# Altium integrated library ON Semi General Purpose Transistors.IntLib: 1679 symbols (part 17 of 36)
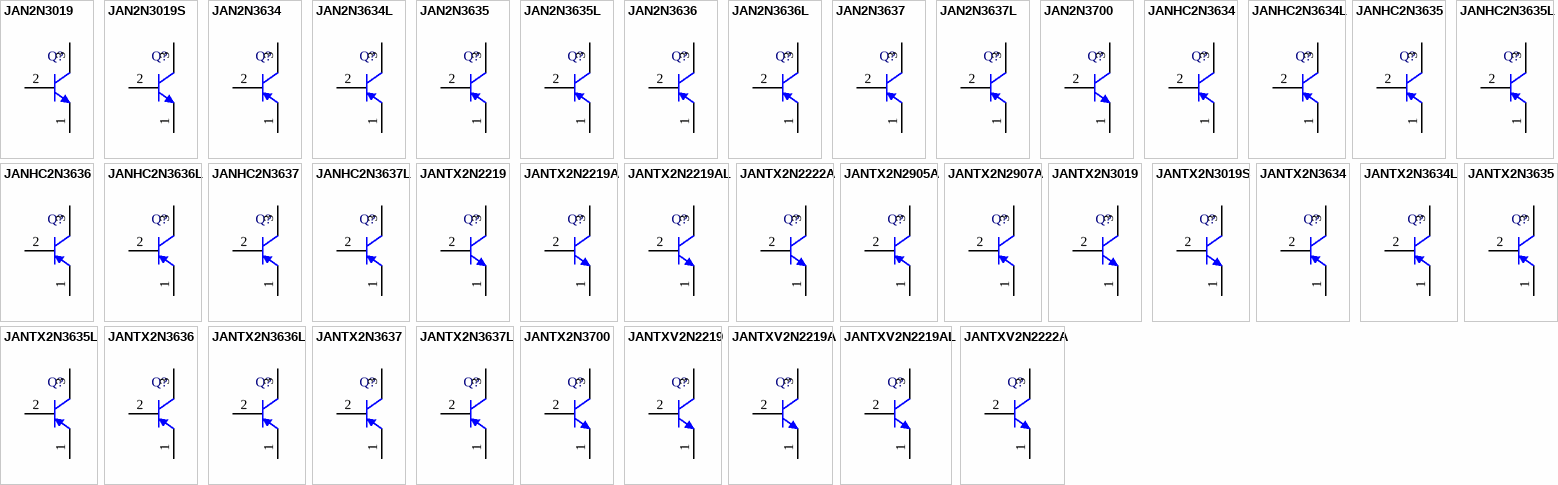
[diagram p61: symbols JAN2N3019 to JANTXV2N2222A]

## JANTX2N2907A
designator Q?
Small Signal Switching Transistor, PNP Silicon, 3-Pin TO-18, Bulk Box; Manufacturer: On Semiconductor; PartNumber: JANTX2N2907A; IC Continuous (A): -0.6; DatasheetVersion: Rev. 3; PackageVersion: Rev. A, 08/2012; PackageReference: TO-18-3-206AA; PackageDescription: 3-Pin Transistor Outline, Diameter 5.575 mm; Supplier 1: Newark; Supplier Part Number 1: 76T6062; Supplier 2: Mouser; Supplier Part Number 2: 863-JANTX2N2907A; Packing: Bulk Box; Polarity: PNP; RoHS: FALSE; Mounting Technology: Through Hole; ComponentLink1Description: Manufacturer URL; ComponentLink1URL: http://www.onsemi.com/; ComponentLink2Description: Datasheet; ComponentLink2URL: http://www.onsemi.com/pub_link/Collateral/2N2907A-D.PDF; ComponentLink3Description: Package Specification; ComponentLink3URL: http://www.onsemi.com/pub_link/Collateral/206AA.PDF
footprint ONSC-TO-18-3-206AA (TO, 3-Leads, Diameter 5.575 mm)
pins: 1 E, 2 B, 3 C

## JANTX2N3019
designator Q?
Low Power Transistor, NPN Silicon, 3-Pin TO-5, Bulk Box; Manufacturer: On Semiconductor; PartNumber: JANTX2N3019; IC Continuous (A): 1; DatasheetVersion: Rev. 2; PackageVersion: Rev. B, 07/2012; PackageReference: TO-5-3-205AA; PackageDescription: 3-Pin Transistor Outline, Diameter 9.145 mm; Supplier 1: Newark; Supplier Part Number 1: 76T6063; Supplier 2: Mouser; Supplier Part Number 2: 863-JANTX2N3019; Packing: Bulk Box; Polarity: NPN; RoHS: FALSE; Mounting Technology: Through Hole; ComponentLink1Description: Manufacturer URL; ComponentLink1URL: http://www.onsemi.com/; ComponentLink2Description: Datasheet; ComponentLink2URL: http://www.onsemi.com/pub_link/Collateral/2N3019-D.PDF; ComponentLink3Description: Package Specification; ComponentLink3URL: http://www.onsemi.com/pub_link/Collateral/205AA.PDF
footprint ONSC-TO-5-3-205AA (TO, 3-Leads, Diameter 9.145 mm)
pins: 1 E, 2 B, 3 C

## JANTX2N3019S
designator Q?
Low Power Transistor, NPN Silicon, 3-Pin TO-39, Bulk Box; Manufacturer: On Semiconductor; PartNumber: JANTX2N3019S; IC Continuous (A): 1; DatasheetVersion: Rev. 2; PackageVersion: Rev. A, 06/2012; PackageReference: TO-39-3-205AB; PackageDescription: 3-Pin Transistor Outline, Diameter 9.145 mm; Supplier 1: Newark; Supplier Part Number 1: 76T6064; Supplier 2: Mouser; Supplier Part Number 2: 863-JANTX2N3019S; Packing: Bulk Box; Polarity: NPN; RoHS: FALSE; Mounting Technology: Through Hole; ComponentLink1Description: Manufacturer URL; ComponentLink1URL: http://www.onsemi.com/; ComponentLink2Description: Datasheet; ComponentLink2URL: http://www.onsemi.com/pub_link/Collateral/2N3019-D.PDF; ComponentLink3Description: Package Specification; ComponentLink3URL: http://www.onsemi.com/pub_link/Collateral/205AB.PDF
footprint ONSC-TO-39-3-205AB (TO, 3-Leads, Diameter 9.145 mm)
pins: 1 E, 2 B, 3 C

## JANTX2N3634
designator Q?
Low Power Transistor, PNP Silicon, 3-Pin TO-39, Bulk Box; Manufacturer: On Semiconductor; PartNumber: JANTX2N3634; IC Continuous (A): 1; DatasheetVersion: Rev. 1; PackageVersion: Rev. A, 06/2012; PackageReference: TO-39-3-205AB; PackageDescription: 3-Pin Transistor Outline, Diameter 9.145 mm; Supplier 1: Newark; Supplier Part Number 1: 72W1878; Packing: Bulk Box; Polarity: PNP; RoHS: FALSE; Mounting Technology: Through Hole; ComponentLink1Description: Manufacturer URL; ComponentLink1URL: http://www.onsemi.com/; ComponentLink2Description: Datasheet; ComponentLink2URL: http://www.onsemi.com/pub_link/Collateral/2N3637-D.PDF; ComponentLink3Description: Package Specification; ComponentLink3URL: http://www.onsemi.com/pub_link/Collateral/205AB.PDF
footprint ONSC-TO-39-3-205AB (TO, 3-Leads, Diameter 9.145 mm)
pins: 1 E, 2 B, 3 C

## JANTX2N3634L
designator Q?
Low Power Transistor, PNP Silicon, 3-Pin TO-5, Bulk Box; Manufacturer: On Semiconductor; PartNumber: JANTX2N3634L; IC Continuous (A): 1; DatasheetVersion: Rev. 1; PackageVersion: Rev. B, 07/2012; PackageReference: TO-5-3-205AA; PackageDescription: 3-Pin Transistor Outline, Diameter 9.145 mm; Supplier 1: Newark; Supplier Part Number 1: 72W1879; Packing: Bulk Box; Polarity: PNP; RoHS: FALSE; Mounting Technology: Through Hole; ComponentLink1Description: Manufacturer URL; ComponentLink1URL: http://www.onsemi.com/; ComponentLink2Description: Datasheet; ComponentLink2URL: http://www.onsemi.com/pub_link/Collateral/2N3637-D.PDF; ComponentLink3Description: Package Specification; ComponentLink3URL: http://www.onsemi.com/pub_link/Collateral/205AA.PDF
footprint ONSC-TO-5-3-205AA (TO, 3-Leads, Diameter 9.145 mm)
pins: 1 E, 2 B, 3 C

## JANTX2N3635
designator Q?
Low Power Transistor, PNP Silicon, 3-Pin TO-39, Bulk Box; Manufacturer: On Semiconductor; PartNumber: JANTX2N3635; IC Continuous (A): 1; DatasheetVersion: Rev. 1; PackageVersion: Rev. A, 06/2012; PackageReference: TO-39-3-205AB; PackageDescription: 3-Pin Transistor Outline, Diameter 9.145 mm; Supplier 1: Newark; Supplier Part Number 1: 72W1880; Packing: Bulk Box; Polarity: PNP; RoHS: FALSE; Mounting Technology: Through Hole; ComponentLink1Description: Manufacturer URL; ComponentLink1URL: http://www.onsemi.com/; ComponentLink2Description: Datasheet; ComponentLink2URL: http://www.onsemi.com/pub_link/Collateral/2N3637-D.PDF; ComponentLink3Description: Package Specification; ComponentLink3URL: http://www.onsemi.com/pub_link/Collateral/205AB.PDF
footprint ONSC-TO-39-3-205AB (TO, 3-Leads, Diameter 9.145 mm)
pins: 1 E, 2 B, 3 C

## JANTX2N3635L
designator Q?
Low Power Transistor, PNP Silicon, 3-Pin TO-5, Bulk Box; Manufacturer: On Semiconductor; PartNumber: JANTX2N3635L; IC Continuous (A): 1; DatasheetVersion: Rev. 1; PackageVersion: Rev. B, 07/2012; PackageReference: TO-5-3-205AA; PackageDescription: 3-Pin Transistor Outline, Diameter 9.145 mm; Supplier 1: Newark; Supplier Part Number 1: 72W1881; Packing: Bulk Box; Polarity: PNP; RoHS: FALSE; Mounting Technology: Through Hole; ComponentLink1Description: Manufacturer URL; ComponentLink1URL: http://www.onsemi.com/; ComponentLink2Description: Datasheet; ComponentLink2URL: http://www.onsemi.com/pub_link/Collateral/2N3637-D.PDF; ComponentLink3Description: Package Specification; ComponentLink3URL: http://www.onsemi.com/pub_link/Collateral/205AA.PDF
footprint ONSC-TO-5-3-205AA (TO, 3-Leads, Diameter 9.145 mm)
pins: 1 E, 2 B, 3 C

## JANTX2N3636
designator Q?
Low Power Transistor, PNP Silicon, 3-Pin TO-39, Bulk Box; Manufacturer: On Semiconductor; PartNumber: JANTX2N3636; IC Continuous (A): 1; DatasheetVersion: Rev. 1; PackageVersion: Rev. A, 06/2012; PackageReference: TO-39-3-205AB; PackageDescription: 3-Pin Transistor Outline, Diameter 9.145 mm; Supplier 1: Newark; Supplier Part Number 1: 72W1882; Packing: Bulk Box; Polarity: PNP; RoHS: FALSE; Mounting Technology: Through Hole; ComponentLink1Description: Manufacturer URL; ComponentLink1URL: http://www.onsemi.com/; ComponentLink2Description: Datasheet; ComponentLink2URL: http://www.onsemi.com/pub_link/Collateral/2N3637-D.PDF; ComponentLink3Description: Package Specification; ComponentLink3URL: http://www.onsemi.com/pub_link/Collateral/205AB.PDF
footprint ONSC-TO-39-3-205AB (TO, 3-Leads, Diameter 9.145 mm)
pins: 1 E, 2 B, 3 C

## JANTX2N3636L
designator Q?
Low Power Transistor, PNP Silicon, 3-Pin TO-5, Bulk Box; Manufacturer: On Semiconductor; PartNumber: JANTX2N3636L; IC Continuous (A): 1; DatasheetVersion: Rev. 1; PackageVersion: Rev. B, 07/2012; PackageReference: TO-5-3-205AA; PackageDescription: 3-Pin Transistor Outline, Diameter 9.145 mm; Supplier 1: Newark; Supplier Part Number 1: 72W1883; Packing: Bulk Box; Polarity: PNP; RoHS: FALSE; Mounting Technology: Through Hole; ComponentLink1Description: Manufacturer URL; ComponentLink1URL: http://www.onsemi.com/; ComponentLink2Description: Datasheet; ComponentLink2URL: http://www.onsemi.com/pub_link/Collateral/2N3637-D.PDF; ComponentLink3Description: Package Specification; ComponentLink3URL: http://www.onsemi.com/pub_link/Collateral/205AA.PDF
footprint ONSC-TO-5-3-205AA (TO, 3-Leads, Diameter 9.145 mm)
pins: 1 E, 2 B, 3 C

## JANTX2N3637
designator Q?
Low Power Transistor, PNP Silicon, 3-Pin TO-39, Bulk Box; Manufacturer: On Semiconductor; PartNumber: JANTX2N3637; IC Continuous (A): 1; DatasheetVersion: Rev. 1; PackageVersion: Rev. A, 06/2012; PackageReference: TO-39-3-205AB; PackageDescription: 3-Pin Transistor Outline, Diameter 9.145 mm; Supplier 1: Newark; Supplier Part Number 1: 72W1884; Packing: Bulk Box; Polarity: PNP; RoHS: FALSE; Mounting Technology: Through Hole; ComponentLink1Description: Manufacturer URL; ComponentLink1URL: http://www.onsemi.com/; ComponentLink2Description: Datasheet; ComponentLink2URL: http://www.onsemi.com/pub_link/Collateral/2N3637-D.PDF; ComponentLink3Description: Package Specification; ComponentLink3URL: http://www.onsemi.com/pub_link/Collateral/205AB.PDF
footprint ONSC-TO-39-3-205AB (TO, 3-Leads, Diameter 9.145 mm)
pins: 1 E, 2 B, 3 C

## JANTX2N3637L
designator Q?
Low Power Transistor, PNP Silicon, 3-Pin TO-5, Bulk Box; Manufacturer: On Semiconductor; PartNumber: JANTX2N3637L; IC Continuous (A): 1; DatasheetVersion: Rev. 1; PackageVersion: Rev. B, 07/2012; PackageReference: TO-5-3-205AA; PackageDescription: 3-Pin Transistor Outline, Diameter 9.145 mm; Supplier 1: Newark; Supplier Part Number 1: 72W1885; Packing: Bulk Box; Polarity: PNP; RoHS: FALSE; Mounting Technology: Through Hole; ComponentLink1Description: Manufacturer URL; ComponentLink1URL: http://www.onsemi.com/; ComponentLink2Description: Datasheet; ComponentLink2URL: http://www.onsemi.com/pub_link/Collateral/2N3637-D.PDF; ComponentLink3Description: Package Specification; ComponentLink3URL: http://www.onsemi.com/pub_link/Collateral/205AA.PDF
footprint ONSC-TO-5-3-205AA (TO, 3-Leads, Diameter 9.145 mm)
pins: 1 E, 2 B, 3 C

## JANTX2N3700
designator Q?
Low Power Transistor, NPN Silicon, 3-Pin TO-18, Bulk Box; Manufacturer: On Semiconductor; PartNumber: JANTX2N3700; IC Continuous (A): 1; DatasheetVersion: Rev. 2; PackageVersion: Rev. A, 08/2012; PackageReference: TO-18-3-206AA; PackageDescription: 3-Pin Transistor Outline, Diameter 5.575 mm; Supplier 1: Newark; Supplier Part Number 1: 76T6065; Supplier 2: Mouser; Supplier Part Number 2: 863-JANTX2N3700; Packing: Bulk Box; Polarity: NPN; RoHS: FALSE; Mounting Technology: Through Hole; ComponentLink1Description: Manufacturer URL; ComponentLink1URL: http://www.onsemi.com/; ComponentLink2Description: Datasheet; ComponentLink2URL: http://www.onsemi.com/pub_link/Collateral/2N3019-D.PDF; ComponentLink3Description: Package Specification; ComponentLink3URL: http://www.onsemi.com/pub_link/Collateral/206AA.PDF
footprint ONSC-TO-18-3-206AA (TO, 3-Leads, Diameter 5.575 mm)
pins: 1 E, 2 B, 3 C

## JANTXV2N2219
designator Q?
Small Signal Switching Transistor, NPN Silicon, 3-Pin TO-39, Bulk Box; Manufacturer: On Semiconductor; PartNumber: JANTXV2N2219; IC Continuous (A): 0.8; DatasheetVersion: Rev. 1; PackageVersion: Rev. A, 06/2012; PackageReference: TO-39-3-205AB; PackageDescription: 3-Pin Transistor Outline, Diameter 9.145 mm; Supplier 1: Mouser; Supplier Part Number 1: 863-JANTXV2N2219; Packing: Bulk Box; Polarity: NPN; RoHS: FALSE; Mounting Technology: Through Hole; ComponentLink1Description: Manufacturer URL; ComponentLink1URL: http://www.onsemi.com/; ComponentLink2Description: Datasheet; ComponentLink2URL: http://www.onsemi.com/pub_link/Collateral/2N2219-D.PDF; ComponentLink3Description: Package Specification; ComponentLink3URL: http://www.onsemi.com/pub_link/Collateral/205AB.PDF
footprint ONSC-TO-39-3-205AB (TO, 3-Leads, Diameter 9.145 mm)
pins: 1 E, 2 B, 3 C

## JANTXV2N2219A
designator Q?
Small Signal Switching Transistor, NPN Silicon, 3-Pin TO-39, Bulk Box; Manufacturer: On Semiconductor; PartNumber: JANTXV2N2219A; IC Continuous (A): 0.8; DatasheetVersion: Rev. 1; PackageVersion: Rev. A, 06/2012; PackageReference: TO-39-3-205AB; PackageDescription: 3-Pin Transistor Outline, Diameter 9.145 mm; Supplier 1: Newark; Supplier Part Number 1: 45W8310; Supplier 2: Mouser; Supplier Part Number 2: 863-JANTXV2N2219A; Packing: Bulk Box; Polarity: NPN; RoHS: FALSE; Mounting Technology: Through Hole; ComponentLink1Description: Manufacturer URL; ComponentLink1URL: http://www.onsemi.com/; ComponentLink2Description: Datasheet; ComponentLink2URL: http://www.onsemi.com/pub_link/Collateral/2N2219-D.PDF; ComponentLink3Description: Package Specification; ComponentLink3URL: http://www.onsemi.com/pub_link/Collateral/205AB.PDF
footprint ONSC-TO-39-3-205AB (TO, 3-Leads, Diameter 9.145 mm)
pins: 1 E, 2 B, 3 C

## JANTXV2N2219AL
designator Q?
Small Signal Switching Transistor, NPN Silicon, 3-Pin TO-5, Bulk Box; Manufacturer: On Semiconductor; PartNumber: JANTXV2N2219AL; IC Continuous (A): 0.8; DatasheetVersion: Rev. 1; PackageVersion: Rev. B, 07/2012; PackageReference: TO-5-3-205AA; PackageDescription: 3-Pin Transistor Outline, Diameter 9.145 mm; Supplier 1: Mouser; Supplier Part Number 1: 863-JANTXV2N2219AL; Packing: Bulk Box; Polarity: NPN; RoHS: FALSE; Mounting Technology: Through Hole; ComponentLink1Description: Manufacturer URL; ComponentLink1URL: http://www.onsemi.com/; ComponentLink2Description: Datasheet; ComponentLink2URL: http://www.onsemi.com/pub_link/Collateral/2N2219-D.PDF; ComponentLink3Description: Package Specification; ComponentLink3URL: http://www.onsemi.com/pub_link/Collateral/205AA.PDF
footprint ONSC-TO-5-3-205AA (TO, 3-Leads, Diameter 9.145 mm)
pins: 1 E, 2 B, 3 C

## JANTXV2N2222A
designator Q?
Small Signal Switching Transistor, NPN Silicon, 3-Pin TO-18, Bulk Box; Manufacturer: On Semiconductor; PartNumber: JANTXV2N2222A; IC Continuous (A): 0.8; DatasheetVersion: Rev. 2; PackageVersion: Rev. A, 08/2012; PackageReference: TO-18-3-206AA; PackageDescription: 3-Pin Transistor Outline, Diameter 5.575 mm; Supplier 1: Newark; Supplier Part Number 1: 45W8312; Supplier 2: Mouser; Supplier Part Number 2: 863-JANTXV2N2222A; Packing: Bulk Box; Polarity: NPN; RoHS: FALSE; Mounting Technology: Through Hole; ComponentLink1Description: Manufacturer URL; ComponentLink1URL: http://www.onsemi.com/; ComponentLink2Description: Datasheet; ComponentLink2URL: http://www.onsemi.com/pub_link/Collateral/2N2222A-D.PDF; ComponentLink3Description: Package Specification; ComponentLink3URL: http://www.onsemi.com/pub_link/Collateral/206AA.PDF
footprint ONSC-TO-18-3-206AA (TO, 3-Leads, Diameter 5.575 mm)
pins: 1 E, 2 B, 3 C

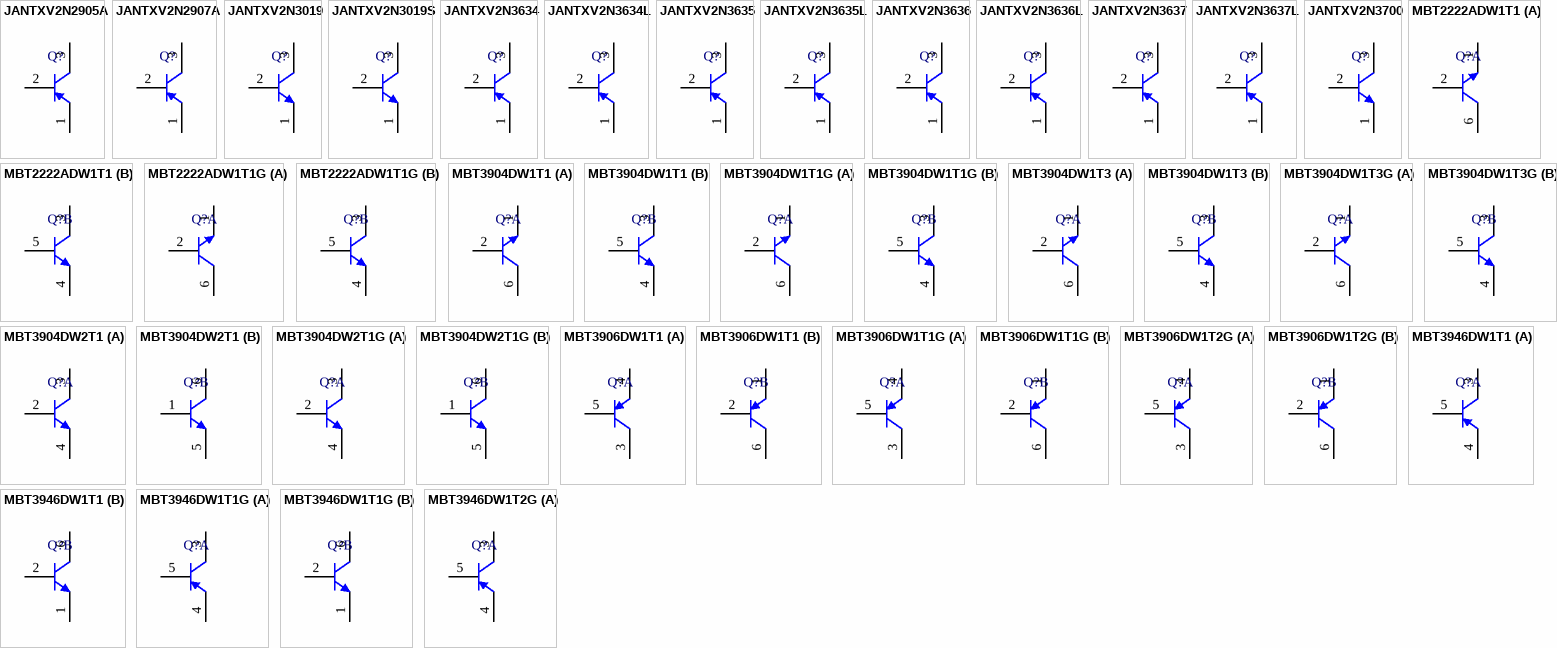
[diagram p21: symbols JANTXV2N2905A to MBT3946DW1T2G]

## JANTXV2N2905A
designator Q?
Small Signal Switching Transistor, PNP Silicon, 3-Pin TO-39, Bulk Box; Manufacturer: On Semiconductor; PartNumber: JANTXV2N2905A; IC Continuous (A): -0.6; DatasheetVersion: Rev. 2; PackageVersion: Rev. A, 06/2012; PackageReference: TO-39-3-205AB; PackageDescription: 3-Pin Transistor Outline, Diameter 9.145 mm; Supplier 1: Mouser; Supplier Part Number 1: 863-JANTXV2N2905A; Packing: Bulk Box; Polarity: PNP; RoHS: FALSE; Mounting Technology: Through Hole; ComponentLink1Description: Manufacturer URL; ComponentLink1URL: http://www.onsemi.com/; ComponentLink2Description: Datasheet; ComponentLink2URL: http://www.onsemi.com/pub_link/Collateral/2N2905A-D.PDF; ComponentLink3Description: Package Specification; ComponentLink3URL: http://www.onsemi.com/pub_link/Collateral/205AB.PDF
footprint ONSC-TO-39-3-205AB (TO, 3-Leads, Diameter 9.145 mm)
pins: 1 E, 2 B, 3 C

## JANTXV2N2907A
designator Q?
Small Signal Switching Transistor, PNP Silicon, 3-Pin TO-18, Bulk Box; Manufacturer: On Semiconductor; PartNumber: JANTXV2N2907A; IC Continuous (A): -0.6; DatasheetVersion: Rev. 3; PackageVersion: Rev. A, 08/2012; PackageReference: TO-18-3-206AA; PackageDescription: 3-Pin Transistor Outline, Diameter 5.575 mm; Supplier 1: Newark; Supplier Part Number 1: 76T6057; Supplier 2: Mouser; Supplier Part Number 2: 863-JANTXV2N2907A; Packing: Bulk Box; Polarity: PNP; RoHS: FALSE; Mounting Technology: Through Hole; ComponentLink1Description: Manufacturer URL; ComponentLink1URL: http://www.onsemi.com/; ComponentLink2Description: Datasheet; ComponentLink2URL: http://www.onsemi.com/pub_link/Collateral/2N2907A-D.PDF; ComponentLink3Description: Package Specification; ComponentLink3URL: http://www.onsemi.com/pub_link/Collateral/206AA.PDF
footprint ONSC-TO-18-3-206AA (TO, 3-Leads, Diameter 5.575 mm)
pins: 1 E, 2 B, 3 C

## JANTXV2N3019
designator Q?
Low Power Transistor, NPN Silicon, 3-Pin TO-5, Bulk Box; Manufacturer: On Semiconductor; PartNumber: JANTXV2N3019; IC Continuous (A): 1; DatasheetVersion: Rev. 2; PackageVersion: Rev. B, 07/2012; PackageReference: TO-5-3-205AA; PackageDescription: 3-Pin Transistor Outline, Diameter 9.145 mm; Supplier 1: Newark; Supplier Part Number 1: 76T6058; Packing: Bulk Box; Polarity: NPN; RoHS: FALSE; Mounting Technology: Through Hole; ComponentLink1Description: Manufacturer URL; ComponentLink1URL: http://www.onsemi.com/; ComponentLink2Description: Datasheet; ComponentLink2URL: http://www.onsemi.com/pub_link/Collateral/2N3019-D.PDF; ComponentLink3Description: Package Specification; ComponentLink3URL: http://www.onsemi.com/pub_link/Collateral/205AA.PDF
footprint ONSC-TO-5-3-205AA (TO, 3-Leads, Diameter 9.145 mm)
pins: 1 E, 2 B, 3 C

## JANTXV2N3019S
designator Q?
Low Power Transistor, NPN Silicon, 3-Pin TO-39, Bulk Box; Manufacturer: On Semiconductor; PartNumber: JANTXV2N3019S; Note: 0; IC Continuous (A): 1; DatasheetVersion: Rev. 2; PackageVersion: Rev. A, 06/2012; PackageReference: TO-39-3-205AB; PackageDescription: 3-Pin Transistor Outline, Diameter 9.145 mm; Packing: Bulk Box; Polarity: NPN; RoHS: FALSE; Mounting Technology: Through Hole; ComponentLink1Description: Manufacturer URL; ComponentLink1URL: http://www.onsemi.com/; ComponentLink2Description: Datasheet; ComponentLink2URL: http://www.onsemi.com/pub_link/Collateral/2N3019-D.PDF; ComponentLink3Description: Package Specification; ComponentLink3URL: http://www.onsemi.com/pub_link/Collateral/205AB.PDF
footprint ONSC-TO-39-3-205AB (TO, 3-Leads, Diameter 9.145 mm)
pins: 1 E, 2 B, 3 C

## JANTXV2N3634
designator Q?
Low Power Transistor, PNP Silicon, 3-Pin TO-39, Bulk Box; Manufacturer: On Semiconductor; PartNumber: JANTXV2N3634; IC Continuous (A): 1; DatasheetVersion: Rev. 1; PackageVersion: Rev. A, 06/2012; PackageReference: TO-39-3-205AB; PackageDescription: 3-Pin Transistor Outline, Diameter 9.145 mm; Supplier 1: Newark; Supplier Part Number 1: 72W1870; Packing: Bulk Box; Polarity: PNP; RoHS: FALSE; Mounting Technology: Through Hole; ComponentLink1Description: Manufacturer URL; ComponentLink1URL: http://www.onsemi.com/; ComponentLink2Description: Datasheet; ComponentLink2URL: http://www.onsemi.com/pub_link/Collateral/2N3637-D.PDF; ComponentLink3Description: Package Specification; ComponentLink3URL: http://www.onsemi.com/pub_link/Collateral/205AB.PDF
footprint ONSC-TO-39-3-205AB (TO, 3-Leads, Diameter 9.145 mm)
pins: 1 E, 2 B, 3 C

## JANTXV2N3634L
designator Q?
Low Power Transistor, PNP Silicon, 3-Pin TO-5, Bulk Box; Manufacturer: On Semiconductor; PartNumber: JANTXV2N3634L; IC Continuous (A): 1; DatasheetVersion: Rev. 1; PackageVersion: Rev. B, 07/2012; PackageReference: TO-5-3-205AA; PackageDescription: 3-Pin Transistor Outline, Diameter 9.145 mm; Supplier 1: Newark; Supplier Part Number 1: 72W1871; Packing: Bulk Box; Polarity: PNP; RoHS: FALSE; Mounting Technology: Through Hole; ComponentLink1Description: Manufacturer URL; ComponentLink1URL: http://www.onsemi.com/; ComponentLink2Description: Datasheet; ComponentLink2URL: http://www.onsemi.com/pub_link/Collateral/2N3637-D.PDF; ComponentLink3Description: Package Specification; ComponentLink3URL: http://www.onsemi.com/pub_link/Collateral/205AA.PDF
footprint ONSC-TO-5-3-205AA (TO, 3-Leads, Diameter 9.145 mm)
pins: 1 E, 2 B, 3 C

## JANTXV2N3635
designator Q?
Low Power Transistor, PNP Silicon, 3-Pin TO-39, Bulk Box; Manufacturer: On Semiconductor; PartNumber: JANTXV2N3635; IC Continuous (A): 1; DatasheetVersion: Rev. 1; PackageVersion: Rev. A, 06/2012; PackageReference: TO-39-3-205AB; PackageDescription: 3-Pin Transistor Outline, Diameter 9.145 mm; Supplier 1: Newark; Supplier Part Number 1: 72W1872; Packing: Bulk Box; Polarity: PNP; RoHS: FALSE; Mounting Technology: Through Hole; ComponentLink1Description: Manufacturer URL; ComponentLink1URL: http://www.onsemi.com/; ComponentLink2Description: Datasheet; ComponentLink2URL: http://www.onsemi.com/pub_link/Collateral/2N3637-D.PDF; ComponentLink3Description: Package Specification; ComponentLink3URL: http://www.onsemi.com/pub_link/Collateral/205AB.PDF
footprint ONSC-TO-39-3-205AB (TO, 3-Leads, Diameter 9.145 mm)
pins: 1 E, 2 B, 3 C

## JANTXV2N3635L
designator Q?
Low Power Transistor, PNP Silicon, 3-Pin TO-5, Bulk Box; Manufacturer: On Semiconductor; PartNumber: JANTXV2N3635L; IC Continuous (A): 1; DatasheetVersion: Rev. 1; PackageVersion: Rev. B, 07/2012; PackageReference: TO-5-3-205AA; PackageDescription: 3-Pin Transistor Outline, Diameter 9.145 mm; Supplier 1: Newark; Supplier Part Number 1: 72W1873; Packing: Bulk Box; Polarity: PNP; RoHS: FALSE; Mounting Technology: Through Hole; ComponentLink1Description: Manufacturer URL; ComponentLink1URL: http://www.onsemi.com/; ComponentLink2Description: Datasheet; ComponentLink2URL: http://www.onsemi.com/pub_link/Collateral/2N3637-D.PDF; ComponentLink3Description: Package Specification; ComponentLink3URL: http://www.onsemi.com/pub_link/Collateral/205AA.PDF
footprint ONSC-TO-5-3-205AA (TO, 3-Leads, Diameter 9.145 mm)
pins: 1 E, 2 B, 3 C

## JANTXV2N3636
designator Q?
Low Power Transistor, PNP Silicon, 3-Pin TO-39, Bulk Box; Manufacturer: On Semiconductor; PartNumber: JANTXV2N3636; IC Continuous (A): 1; DatasheetVersion: Rev. 1; PackageVersion: Rev. A, 06/2012; PackageReference: TO-39-3-205AB; PackageDescription: 3-Pin Transistor Outline, Diameter 9.145 mm; Supplier 1: Newark; Supplier Part Number 1: 72W1874; Packing: Bulk Box; Polarity: PNP; RoHS: FALSE; Mounting Technology: Through Hole; ComponentLink1Description: Manufacturer URL; ComponentLink1URL: http://www.onsemi.com/; ComponentLink2Description: Datasheet; ComponentLink2URL: http://www.onsemi.com/pub_link/Collateral/2N3637-D.PDF; ComponentLink3Description: Package Specification; ComponentLink3URL: http://www.onsemi.com/pub_link/Collateral/205AB.PDF
footprint ONSC-TO-39-3-205AB (TO, 3-Leads, Diameter 9.145 mm)
pins: 1 E, 2 B, 3 C

## JANTXV2N3636L
designator Q?
Low Power Transistor, PNP Silicon, 3-Pin TO-5, Bulk Box; Manufacturer: On Semiconductor; PartNumber: JANTXV2N3636L; IC Continuous (A): 1; DatasheetVersion: Rev. 1; PackageVersion: Rev. B, 07/2012; PackageReference: TO-5-3-205AA; PackageDescription: 3-Pin Transistor Outline, Diameter 9.145 mm; Supplier 1: Newark; Supplier Part Number 1: 72W1875; Packing: Bulk Box; Polarity: PNP; RoHS: FALSE; Mounting Technology: Through Hole; ComponentLink1Description: Manufacturer URL; ComponentLink1URL: http://www.onsemi.com/; ComponentLink2Description: Datasheet; ComponentLink2URL: http://www.onsemi.com/pub_link/Collateral/2N3637-D.PDF; ComponentLink3Description: Package Specification; ComponentLink3URL: http://www.onsemi.com/pub_link/Collateral/205AA.PDF
footprint ONSC-TO-5-3-205AA (TO, 3-Leads, Diameter 9.145 mm)
pins: 1 E, 2 B, 3 C

## JANTXV2N3637
designator Q?
Low Power Transistor, PNP Silicon, 3-Pin TO-39, Bulk Box; Manufacturer: On Semiconductor; PartNumber: JANTXV2N3637; IC Continuous (A): 1; DatasheetVersion: Rev. 1; PackageVersion: Rev. A, 06/2012; PackageReference: TO-39-3-205AB; PackageDescription: 3-Pin Transistor Outline, Diameter 9.145 mm; Supplier 1: Newark; Supplier Part Number 1: 72W1876; Packing: Bulk Box; Polarity: PNP; RoHS: FALSE; Mounting Technology: Through Hole; ComponentLink1Description: Manufacturer URL; ComponentLink1URL: http://www.onsemi.com/; ComponentLink2Description: Datasheet; ComponentLink2URL: http://www.onsemi.com/pub_link/Collateral/2N3637-D.PDF; ComponentLink3Description: Package Specification; ComponentLink3URL: http://www.onsemi.com/pub_link/Collateral/205AB.PDF
footprint ONSC-TO-39-3-205AB (TO, 3-Leads, Diameter 9.145 mm)
pins: 1 E, 2 B, 3 C

## JANTXV2N3637L
designator Q?
Low Power Transistor, PNP Silicon, 3-Pin TO-5, Bulk Box; Manufacturer: On Semiconductor; PartNumber: JANTXV2N3637L; IC Continuous (A): 1; DatasheetVersion: Rev. 1; PackageVersion: Rev. B, 07/2012; PackageReference: TO-5-3-205AA; PackageDescription: 3-Pin Transistor Outline, Diameter 9.145 mm; Supplier 1: Newark; Supplier Part Number 1: 72W1877; Packing: Bulk Box; Polarity: PNP; RoHS: FALSE; Mounting Technology: Through Hole; ComponentLink1Description: Manufacturer URL; ComponentLink1URL: http://www.onsemi.com/; ComponentLink2Description: Datasheet; ComponentLink2URL: http://www.onsemi.com/pub_link/Collateral/2N3637-D.PDF; ComponentLink3Description: Package Specification; ComponentLink3URL: http://www.onsemi.com/pub_link/Collateral/205AA.PDF
footprint ONSC-TO-5-3-205AA (TO, 3-Leads, Diameter 9.145 mm)
pins: 1 E, 2 B, 3 C

## JANTXV2N3700
designator Q?
Low Power Transistor, NPN Silicon, 3-Pin TO-18, Bulk Box; Manufacturer: On Semiconductor; PartNumber: JANTXV2N3700; IC Continuous (A): 1; DatasheetVersion: Rev. 2; PackageVersion: Rev. A, 08/2012; PackageReference: TO-18-3-206AA; PackageDescription: 3-Pin Transistor Outline, Diameter 5.575 mm; Supplier 1: Newark; Supplier Part Number 1: 76T6060; Supplier 2: Mouser; Supplier Part Number 2: 863-JANTXV2N3700; Packing: Bulk Box; Polarity: NPN; RoHS: FALSE; Mounting Technology: Through Hole; ComponentLink1Description: Manufacturer URL; ComponentLink1URL: http://www.onsemi.com/; ComponentLink2Description: Datasheet; ComponentLink2URL: http://www.onsemi.com/pub_link/Collateral/2N3019-D.PDF; ComponentLink3Description: Package Specification; ComponentLink3URL: http://www.onsemi.com/pub_link/Collateral/206AA.PDF
footprint ONSC-TO-18-3-206AA (TO, 3-Leads, Diameter 5.575 mm)
pins: 1 E, 2 B, 3 C

## MBT2222ADW1T1
designator Q?
General Purpose Transistor, NPN Silicon, 6-Pin SOT-363, Tape and Reel; Manufacturer: On Semiconductor; PartNumber: MBT2222ADW1T1; Note: 0; fT Min (MHz): 300; IC Continuous (A): 0.6; Polarity: Dual NPN; DatasheetVersion: Rev. 5; PackageVersion: Rev. Y, 12/2012; PackageReference: SOT-363-6-419B-02; PackageDescription: 6-Pin Small Outline Transistor, Body 2 x 1.25 mm, Pitch 0.65 mm; Packing: Tape and Reel; RoHS: FALSE; Mounting Technology: Surface Mount; ComponentLink1Description: Manufacturer URL; ComponentLink1URL: http://www.onsemi.com/; ComponentLink2Description: Datasheet; ComponentLink2URL: http://www.onsemi.com/pub_link/Collateral/MBT2222ADW1T1-D.PDF; ComponentLink3Description: Package Specification; ComponentLink3URL: http://www.onsemi.cn/pub_link/Collateral/419B-02.PDF
footprint ONSC-SOT-363-6-419B-02_V (SOT23, 6-Leads, Body 2x1.25mm, Pitch 0.65mm)
part A pins: 1 E, 2 B, 6 C
part B pins: 3 C, 4 E, 5 B

## MBT2222ADW1T1G
designator Q?
General Purpose Transistor, NPN Silicon, 6-Pin SOT-363, Pb-Free, Tape and Reel; Manufacturer: On Semiconductor; PartNumber: MBT2222ADW1T1G; fT Min (MHz): 300; IC Continuous (A): 0.6; Polarity: Dual NPN; DatasheetVersion: Rev. 5; PackageVersion: Rev. Y, 12/2012; PackageReference: SOT-363-6-419B-02; PackageDescription: 6-Pin Small Outline Transistor, Body 2 x 1.25 mm, Pitch 0.65 mm; Supplier 1: Digi-Key; Supplier Part Number 1: MBT2222ADW1T1GOSTR-ND; Supplier 2: Digi-Key; Supplier Part Number 2: MBT2222ADW1T1GOSCT-ND; Supplier 3: Digi-Key; Supplier Part Number 3: MBT2222ADW1T1GOSDKR-ND; Supplier 4: Farnell; Supplier Part Number 4: 1364536; Supplier 5: Newark; Supplier Part Number 5: 42K0022; Supplier 6: Mouser; Supplier Part Number 6: 863-MBT2222ADW1T1G; Packing: Tape and Reel; RoHS: TRUE; Mounting Technology: Surface Mount; ComponentLink1Description: Manufacturer URL; ComponentLink1URL: http://www.onsemi.com/; ComponentLink2Description: Datasheet; ComponentLink2URL: http://www.onsemi.com/pub_link/Collateral/MBT2222ADW1T1-D.PDF; ComponentLink3Description: Package Specification; ComponentLink3URL: http://www.onsemi.cn/pub_link/Collateral/419B-02.PDF
footprint ONSC-SOT-363-6-419B-02_V (SOT23, 6-Leads, Body 2x1.25mm, Pitch 0.65mm)
part A pins: 1 E, 2 B, 6 C
part B pins: 3 C, 4 E, 5 B

## MBT3904DW1T1
designator Q?
Dual General Purpose Transistors, 6-Pin SOT-363, Tape and Reel; Manufacturer: On Semiconductor; PartNumber: MBT3904DW1T1; fT Min (MHz): 300; IC Continuous (A): 0.2; Polarity: Dual NPN; DatasheetVersion: Rev. 9; PackageVersion: Rev. W, 01/2006; PackageReference: SOT-363-6-419B-02_W; PackageDescription: 6-Pin Small Outline Transistor, Body 2 x 1.25 mm, Pitch 0.65 mm; Supplier 1: Digi-Key; Supplier Part Number 1: MBT3904DW1T1OSCT-ND; Packing: Tape and Reel; RoHS: FALSE; Mounting Technology: Surface Mount; ComponentLink1Description: Manufacturer URL; ComponentLink1URL: http://www.onsemi.com/; ComponentLink2Description: Datasheet; ComponentLink2URL: http://www.onsemi.com/pub_link/Collateral/MBT3904DW1T1-D.PDF; ComponentLink3Description: Package Specification; ComponentLink3URL: http://www.onsemi.com/pub_link/Collateral/NTJD4001N-D.PDF
footprint ONSC-SOT-363-6-419B-02_W_V (SOT23, 6-Leads, Body 2x1.25mm, Pitch 0.65mm)
part A pins: 1 E, 2 B, 6 C
part B pins: 3 C, 4 E, 5 B

## MBT3904DW1T1G
designator Q?
Dual General Purpose Transistors, 6-Pin SOT-363, Pb-Free, Tape and Reel; Manufacturer: On Semiconductor; PartNumber: MBT3904DW1T1G; fT Min (MHz): 300; IC Continuous (A): 0.2; Polarity: Dual NPN; DatasheetVersion: Rev. 9; PackageVersion: Rev. W, 01/2006; PackageReference: SOT-363-6-419B-02_W; PackageDescription: 6-Pin Small Outline Transistor, Body 2 x 1.25 mm, Pitch 0.65 mm; Supplier 1: Digi-Key; Supplier Part Number 1: MBT3904DW1T1GOSTR-ND; Supplier 2: Digi-Key; Supplier Part Number 2: MBT3904DW1T1GOSCT-ND; Supplier 3: Digi-Key; Supplier Part Number 3: MBT3904DW1T1GOSDKR-ND; Supplier 4: Farnell; Supplier Part Number 4: 2317918; Supplier 5: Farnell; Supplier Part Number 5: 1653615; Supplier 6: Farnell; Supplier Part Number 6: 1653615RL; Supplier 7: Newark; Supplier Part Number 7: 88H4687; Supplier 8: Newark; Supplier Part Number 8: 67R1321; Supplier 9: Mouser; Supplier Part Number 9: 863-MBT3904DW1T1G; Packing: Tape and Reel; RoHS: TRUE; Mounting Technology: Surface Mount; ComponentLink1Description: Manufacturer URL; ComponentLink1URL: http://www.onsemi.com/; ComponentLink2Description: Datasheet; ComponentLink2URL: http://www.onsemi.com/pub_link/Collateral/MBT3904DW1T1-D.PDF; ComponentLink3Description: Package Specification; ComponentLink3URL: http://www.onsemi.com/pub_link/Collateral/NTJD4001N-D.PDF
footprint ONSC-SOT-363-6-419B-02_W_V (SOT23, 6-Leads, Body 2x1.25mm, Pitch 0.65mm)
part A pins: 1 E, 2 B, 6 C
part B pins: 3 C, 4 E, 5 B

## MBT3904DW1T3
designator Q?
Dual General Purpose Transistors, 6-Pin SOT-363, Tape and Reel; Manufacturer: On Semiconductor; PartNumber: MBT3904DW1T3; Note: 0; fT Min (MHz): 300; IC Continuous (A): 0.2; Polarity: Dual NPN; DatasheetVersion: Rev. 9; PackageVersion: Rev. W, 01/2006; PackageReference: SOT-363-6-419B-02_W; PackageDescription: 6-Pin Small Outline Transistor, Body 2 x 1.25 mm, Pitch 0.65 mm; Packing: Tape and Reel; RoHS: FALSE; Mounting Technology: Surface Mount; ComponentLink1Description: Manufacturer URL; ComponentLink1URL: http://www.onsemi.com/; ComponentLink2Description: Datasheet; ComponentLink2URL: http://www.onsemi.com/pub_link/Collateral/MBT3904DW1T1-D.PDF; ComponentLink3Description: Package Specification; ComponentLink3URL: http://www.onsemi.com/pub_link/Collateral/NTJD4001N-D.PDF
footprint ONSC-SOT-363-6-419B-02_W_V (SOT23, 6-Leads, Body 2x1.25mm, Pitch 0.65mm)
part A pins: 1 E, 2 B, 6 C
part B pins: 3 C, 4 E, 5 B

## MBT3904DW1T3G
designator Q?
Dual General Purpose Transistors, 6-Pin SOT-363, Pb-Free, Tape and Reel; Manufacturer: On Semiconductor; PartNumber: MBT3904DW1T3G; fT Min (MHz): 300; IC Continuous (A): 0.2; Polarity: Dual NPN; DatasheetVersion: Rev. 9; PackageVersion: Rev. W, 01/2006; PackageReference: SOT-363-6-419B-02_W; PackageDescription: 6-Pin Small Outline Transistor, Body 2 x 1.25 mm, Pitch 0.65 mm; Supplier 1: Digi-Key; Supplier Part Number 1: MBT3904DW1T3G-ND; Supplier 2: Newark; Supplier Part Number 2: 26K3691; Supplier 3: Mouser; Supplier Part Number 3: 863-MBT3904DW1T3G; Packing: Tape and Reel; RoHS: TRUE; Mounting Technology: Surface Mount; ComponentLink1Description: Manufacturer URL; ComponentLink1URL: http://www.onsemi.com/; ComponentLink2Description: Datasheet; ComponentLink2URL: http://www.onsemi.com/pub_link/Collateral/MBT3904DW1T1-D.PDF; ComponentLink3Description: Package Specification; ComponentLink3URL: http://www.onsemi.com/pub_link/Collateral/NTJD4001N-D.PDF
footprint ONSC-SOT-363-6-419B-02_W_V (SOT23, 6-Leads, Body 2x1.25mm, Pitch 0.65mm)
part A pins: 1 E, 2 B, 6 C
part B pins: 3 C, 4 E, 5 B

## MBT3904DW2T1
designator Q?
Dual General Purpose Transistors, 6-Pin SOT-363, Tape and Reel; Manufacturer: On Semiconductor; PartNumber: MBT3904DW2T1; fT Min (MHz): 300; IC Continuous (A): 0.2; Polarity: Dual NPN; DatasheetVersion: Rev. 9; PackageVersion: Rev. W, 01/2006; PackageReference: SOT-363-6-419B-02_W; PackageDescription: 6-Pin Small Outline Transistor, Body 2 x 1.25 mm, Pitch 0.65 mm; Supplier 1: Digi-Key; Supplier Part Number 1: MBT3904DW2T1OS-ND; Supplier 2: Mouser; Supplier Part Number 2: 863-MBT3904DW2T1; Packing: Tape and Reel; RoHS: FALSE; Mounting Technology: Surface Mount; ComponentLink1Description: Manufacturer URL; ComponentLink1URL: http://www.onsemi.com/; ComponentLink2Description: Datasheet; ComponentLink2URL: http://www.onsemi.cn/pub_link/Collateral/MBT3904DW1T1-D.PDF; ComponentLink3Description: Package Specification; ComponentLink3URL: http://www.onsemi.com/pub_link/Collateral/NTJD4001N-D.PDF
footprint ONSC-SOT-363-6-419B-02_W_V (SOT23, 6-Leads, Body 2x1.25mm, Pitch 0.65mm)
part A pins: 2 B, 3 C, 4 E
part B pins: 1 B, 5 E, 6 C

## MBT3904DW2T1G
designator Q?
Dual General Purpose Transistors, 6-Pin SOT-363, Pb-Free, Tape and Reel; Manufacturer: On Semiconductor; PartNumber: MBT3904DW2T1G; fT Min (MHz): 300; IC Continuous (A): 0.2; Polarity: Dual NPN; DatasheetVersion: Rev. 9; PackageVersion: Rev. W, 01/2006; PackageReference: SOT-363-6-419B-02_W; PackageDescription: 6-Pin Small Outline Transistor, Body 2 x 1.25 mm, Pitch 0.65 mm; Supplier 1: Digi-Key; Supplier Part Number 1: MBT3904DW2T1GOS-ND; Supplier 2: Mouser; Supplier Part Number 2: 863-MBT3904DW2T1G; Packing: Tape and Reel; RoHS: TRUE; Mounting Technology: Surface Mount; ComponentLink1Description: Manufacturer URL; ComponentLink1URL: http://www.onsemi.com/; ComponentLink2Description: Datasheet; ComponentLink2URL: http://www.onsemi.cn/pub_link/Collateral/MBT3904DW1T1-D.PDF; ComponentLink3Description: Package Specification; ComponentLink3URL: http://www.onsemi.com/pub_link/Collateral/NTJD4001N-D.PDF
footprint ONSC-SOT-363-6-419B-02_W_V (SOT23, 6-Leads, Body 2x1.25mm, Pitch 0.65mm)
part A pins: 2 B, 3 C, 4 E
part B pins: 1 B, 5 E, 6 C

## MBT3906DW1T1
designator Q?
Dual General Purpose Transistors, 6-Pin SOT-363, Tape and Reel; Manufacturer: On Semiconductor; PartNumber: MBT3906DW1T1; fT Min (MHz): 250; IC Continuous (A): -0.2; Polarity: Dual PNP; DatasheetVersion: Rev. 5; PackageVersion: Rev. Y, 12/2012; PackageReference: SOT-363-6-419B-02; PackageDescription: 6-Pin Small Outline Transistor, Body 2 x 1.25 mm, Pitch 0.65 mm; Supplier 1: Digi-Key; Supplier Part Number 1: MBT3906DW1T1OSCT-ND; Packing: Tape and Reel; RoHS: FALSE; Mounting Technology: Surface Mount; ComponentLink1Description: Manufacturer URL; ComponentLink1URL: http://www.onsemi.com/; ComponentLink2Description: Datasheet; ComponentLink2URL: http://www.onsemi.com/pub_link/Collateral/MBT3906DW1T1-D.PDF; ComponentLink3Description: Package Specification; ComponentLink3URL: http://www.onsemi.cn/pub_link/Collateral/419B-02.PDF
footprint ONSC-SOT-363-6-419B-02_V (SOT23, 6-Leads, Body 2x1.25mm, Pitch 0.65mm)
part A pins: 3 C, 4 E, 5 B
part B pins: 1 E, 2 B, 6 C

## MBT3906DW1T1G
designator Q?
Dual General Purpose Transistors, 6-Pin SOT-363, Pb-Free, Tape and Reel; Manufacturer: On Semiconductor; PartNumber: MBT3906DW1T1G; fT Min (MHz): 250; IC Continuous (A): -0.2; Polarity: Dual PNP; DatasheetVersion: Rev. 5; PackageVersion: Rev. Y, 12/2012; PackageReference: SOT-363-6-419B-02; PackageDescription: 6-Pin Small Outline Transistor, Body 2 x 1.25 mm, Pitch 0.65 mm; Supplier 1: Digi-Key; Supplier Part Number 1: MBT3906DW1T1GOSTR-ND; Supplier 2: Digi-Key; Supplier Part Number 2: MBT3906DW1T1GOSCT-ND; Supplier 3: Digi-Key; Supplier Part Number 3: MBT3906DW1T1GOSDKR-ND; Supplier 4: Newark; Supplier Part Number 4: 88H4689; Supplier 5: Mouser; Supplier Part Number 5: 863-MBT3906DW1T1G; Packing: Tape and Reel; RoHS: TRUE; Mounting Technology: Surface Mount; ComponentLink1Description: Manufacturer URL; ComponentLink1URL: http://www.onsemi.com/; ComponentLink2Description: Datasheet; ComponentLink2URL: http://www.onsemi.com/pub_link/Collateral/MBT3906DW1T1-D.PDF; ComponentLink3Description: Package Specification; ComponentLink3URL: http://www.onsemi.cn/pub_link/Collateral/419B-02.PDF
footprint ONSC-SOT-363-6-419B-02_V (SOT23, 6-Leads, Body 2x1.25mm, Pitch 0.65mm)
part A pins: 3 C, 4 E, 5 B
part B pins: 1 E, 2 B, 6 C

## MBT3906DW1T2G
designator Q?
Dual General Purpose Transistors, 6-Pin SOT-363, Pb-Free, Tape and Reel; Manufacturer: On Semiconductor; PartNumber: MBT3906DW1T2G; fT Min (MHz): 250; IC Continuous (A): -0.2; Polarity: Dual PNP; DatasheetVersion: Rev. 5; PackageVersion: Rev. Y, 12/2012; PackageReference: SOT-363-6-419B-02; PackageDescription: 6-Pin Small Outline Transistor, Body 2 x 1.25 mm, Pitch 0.65 mm; Supplier 1: Newark; Supplier Part Number 1: 11X3284; Supplier 2: Mouser; Supplier Part Number 2: 863-MBT3906DW1T2G; Packing: Tape and Reel; RoHS: TRUE; Mounting Technology: Surface Mount; ComponentLink1Description: Manufacturer URL; ComponentLink1URL: http://www.onsemi.com/; ComponentLink2Description: Datasheet; ComponentLink2URL: http://www.onsemi.com/pub_link/Collateral/MBT3906DW1T1-D.PDF; ComponentLink3Description: Package Specification; ComponentLink3URL: http://www.onsemi.cn/pub_link/Collateral/419B-02.PDF
footprint ONSC-SOT-363-6-419B-02_V (SOT23, 6-Leads, Body 2x1.25mm, Pitch 0.65mm)
part A pins: 3 C, 4 E, 5 B
part B pins: 1 E, 2 B, 6 C

## MBT3946DW1T1
designator Q?
Complementary General Purpose Transistors, 6-Pin SC70, Tape and Reel; Manufacturer: On Semiconductor; PartNumber: MBT3946DW1T1; IC Continuous (A): 0.2; DatasheetVersion: Rev. 7; PackageVersion: Rev. W; PackageReference: SC70-6-419B-02_W; PackageDescription: 6-Pin Small Outline Transistor, Body 2 x 1.25 mm, Pitch 0.65 mm; Supplier 1: Digi-Key; Supplier Part Number 1: MBT3946DW1T1OSCT-ND; Packing: Tape and Reel; Polarity: Complementary; RoHS: FALSE; Mounting Technology: Surface Mount; ComponentLink1Description: Manufacturer URL; ComponentLink1URL: http://www.onsemi.com/; ComponentLink2Description: Datasheet; ComponentLink2URL: http://www.onsemi.com/pub_link/Collateral/MBT3946DW1T1-D.PDF; ComponentLink3Description: Package Specification; ComponentLink3URL: http://www.onsemi.com/pub_link/Collateral/SMF05C-D.PDF
footprint ONSC-SC70-6-419B-02_W_V (SOT23, 6-Leads, Body 2x1.25mm, Pitch 0.65mm)
part A pins: 3 C, 4 E, 5 B
part B pins: 1 E, 2 B, 6 C

## MBT3946DW1T1G
designator Q?
Complementary General Purpose Transistors, 6-Pin SC70, Pb-Free, Tape and Reel; Manufacturer: On Semiconductor; PartNumber: MBT3946DW1T1G; IC Continuous (A): 0.2; DatasheetVersion: Rev. 7; PackageVersion: Rev. W; PackageReference: SC70-6-419B-02_W; PackageDescription: 6-Pin Small Outline Transistor, Body 2 x 1.25 mm, Pitch 0.65 mm; Supplier 1: Digi-Key; Supplier Part Number 1: MBT3946DW1T1GOSTR-ND; Supplier 2: Digi-Key; Supplier Part Number 2: MBT3946DW1T1GOSCT-ND; Supplier 3: Digi-Key; Supplier Part Number 3: MBT3946DW1T1GOSDKR-ND; Supplier 4: Farnell; Supplier Part Number 4: 1459079; Supplier 5: Farnell; Supplier Part Number 5: 1459079RL; Supplier 6: Farnell; Supplier Part Number 6: 2370812; Supplier 7: Newark; Supplier Part Number 7: 83H7283; Supplier 8: Newark; Supplier Part Number 8: 67R1322; Supplier 9: Mouser; Supplier Part Number 9: 863-MBT3946DW1T1G; Packing: Tape and Reel; Polarity: Complementary; RoHS: TRUE; Mounting Technology: Surface Mount; ComponentLink1Description: Manufacturer URL; ComponentLink1URL: http://www.onsemi.com/; ComponentLink2Description: Datasheet; ComponentLink2URL: http://www.onsemi.com/pub_link/Collateral/MBT3946DW1T1-D.PDF; ComponentLink3Description: Package Specification; ComponentLink3URL: http://www.onsemi.com/pub_link/Collateral/SMF05C-D.PDF
footprint ONSC-SC70-6-419B-02_W_V (SOT23, 6-Leads, Body 2x1.25mm, Pitch 0.65mm)
part A pins: 3 C, 4 E, 5 B
part B pins: 1 E, 2 B, 6 C

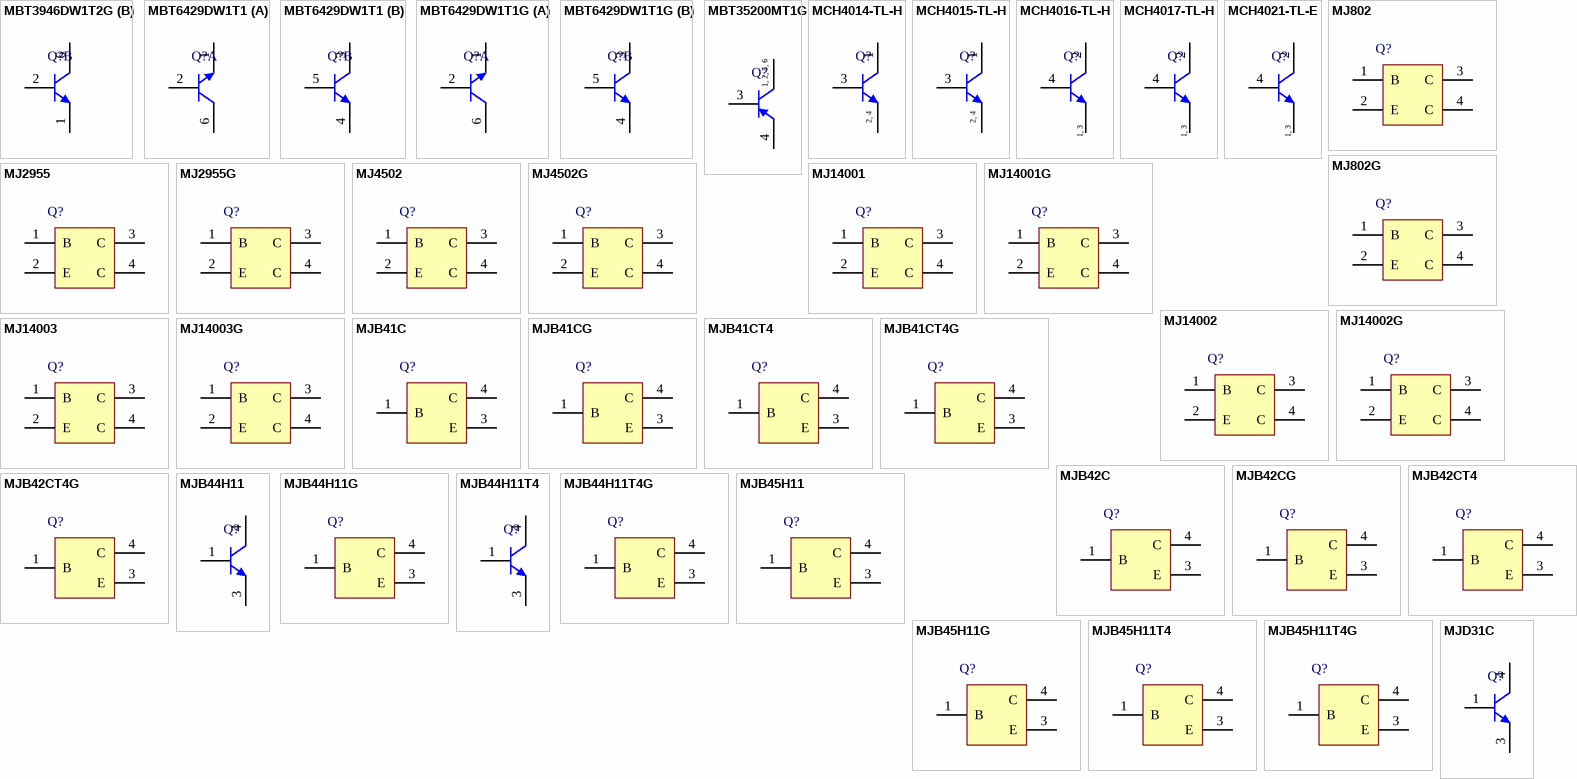
[diagram p22: symbols MBT3946DW1T2G to MJD31C]

## MBT3946DW1T2G
designator Q?
Complementary General Purpose Transistors, 6-Pin SC70, Pb-Free, Tape and Reel; Manufacturer: On Semiconductor; PartNumber: MBT3946DW1T2G; IC Continuous (A): 0.2; DatasheetVersion: Rev. 7; PackageVersion: Rev. W; PackageReference: SC70-6-419B-02_W; PackageDescription: 6-Pin Small Outline Transistor, Body 2 x 1.25 mm, Pitch 0.65 mm; Supplier 1: Digi-Key; Supplier Part Number 1: MBT3946DW1T2GOSTR-ND; Supplier 2: Digi-Key; Supplier Part Number 2: MBT3946DW1T2GOSCT-ND; Supplier 3: Digi-Key; Supplier Part Number 3: MBT3946DW1T2GOSDKR-ND; Supplier 4: Farnell; Supplier Part Number 4: 1890484; Supplier 5: Newark; Supplier Part Number 5: 09R9425; Supplier 6: Mouser; Supplier Part Number 6: 863-MBT3946DW1T2G; Packing: Tape and Reel; Polarity: Complementary; RoHS: TRUE; Mounting Technology: Surface Mount; ComponentLink1Description: Manufacturer URL; ComponentLink1URL: http://www.onsemi.com/; ComponentLink2Description: Datasheet; ComponentLink2URL: http://www.onsemi.com/pub_link/Collateral/MBT3946DW1T1-D.PDF; ComponentLink3Description: Package Specification; ComponentLink3URL: http://www.onsemi.com/pub_link/Collateral/SMF05C-D.PDF
footprint ONSC-SC70-6-419B-02_W_V (SOT23, 6-Leads, Body 2x1.25mm, Pitch 0.65mm)
part A pins: 3 C, 4 E, 5 B
part B pins: 1 E, 2 B, 6 C

## MBT6429DW1T1
designator Q?
Amplifier Transistor, NPN Silicon, 6-Pin SC70, Tape and Reel; Manufacturer: On Semiconductor; PartNumber: MBT6429DW1T1; fT Min (MHz): 100; IC Continuous (A): 0.2; Polarity: Dual NPN; DatasheetVersion: Rev. 3; PackageVersion: Rev. W; PackageReference: SC70-6-419B-02_W; PackageDescription: 6-Pin Small Outline Transistor, Body 2 x 1.25 mm, Pitch 0.65 mm; Supplier 1: Digi-Key; Supplier Part Number 1: MBT6429DW1T1-ND; Packing: Tape and Reel; RoHS: FALSE; Mounting Technology: Surface Mount; ComponentLink1Description: Manufacturer URL; ComponentLink1URL: http://www.onsemi.com/; ComponentLink2Description: Datasheet; ComponentLink2URL: http://www.onsemi.com/pub_link/Collateral/MBT6429DW1T1-D.PDF; ComponentLink3Description: Package Specification; ComponentLink3URL: http://www.onsemi.com/pub_link/Collateral/SMF05C-D.PDF
footprint ONSC-SC70-6-419B-02_W_V (SOT23, 6-Leads, Body 2x1.25mm, Pitch 0.65mm)
part A pins: 1 E, 2 B, 6 C
part B pins: 3 C, 4 E, 5 B

## MBT6429DW1T1G
designator Q?
Amplifier Transistor, NPN Silicon, 6-Pin SC70, Pb-Free, Tape and Reel; Manufacturer: On Semiconductor; PartNumber: MBT6429DW1T1G; fT Min (MHz): 100; IC Continuous (A): 0.2; Polarity: Dual NPN; DatasheetVersion: Rev. 3; PackageVersion: Rev. W; PackageReference: SC70-6-419B-02_W; PackageDescription: 6-Pin Small Outline Transistor, Body 2 x 1.25 mm, Pitch 0.65 mm; Supplier 1: Digi-Key; Supplier Part Number 1: MBT6429DW1T1GOSTR-ND; Supplier 2: Digi-Key; Supplier Part Number 2: MBT6429DW1T1GOSCT-ND; Supplier 3: Digi-Key; Supplier Part Number 3: MBT6429DW1T1GOSDKR-ND; Supplier 4: Newark; Supplier Part Number 4: 45J0811; Supplier 5: Mouser; Supplier Part Number 5: 863-MBT6429DW1T1G; Packing: Tape and Reel; RoHS: TRUE; Mounting Technology: Surface Mount; ComponentLink1Description: Manufacturer URL; ComponentLink1URL: http://www.onsemi.com/; ComponentLink2Description: Datasheet; ComponentLink2URL: http://www.onsemi.com/pub_link/Collateral/MBT6429DW1T1-D.PDF; ComponentLink3Description: Package Specification; ComponentLink3URL: http://www.onsemi.com/pub_link/Collateral/SMF05C-D.PDF
footprint ONSC-SC70-6-419B-02_W_V (SOT23, 6-Leads, Body 2x1.25mm, Pitch 0.65mm)
part A pins: 1 E, 2 B, 6 C
part B pins: 3 C, 4 E, 5 B

## MBT35200MT1G
designator Q?
High Current Surface Mount PNP Silicon Switching Transistor for Load Management in Portable Application, 6-Pin TSOP, Pb-Free, Tape and Reel; Manufacturer: On Semiconductor; PartNumber: MBT35200MT1G; fT Min (MHz): 100; IC Continuous (A): -2; DatasheetVersion: Rev. 5; PackageVersion: Rev. V, 06/2012; PackageReference: TSOP-6-318G-02; PackageDescription: 6-Pin Small Outline Package, Body 3 x 1.5 mm, Pitch 0.95 mm; Supplier 1: Digi-Key; Supplier Part Number 1: MBT35200MT1GOSTR-ND; Supplier 2: Digi-Key; Supplier Part Number 2: MBT35200MT1GOSCT-ND; Supplier 3: Digi-Key; Supplier Part Number 3: MBT35200MT1GOSDKR-ND; Supplier 4: Newark; Supplier Part Number 4: 45J0809; Supplier 5: Mouser; Supplier Part Number 5: 863-MBT35200MT1G; Packing: Tape and Reel; Polarity: PNP; RoHS: TRUE; Mounting Technology: Surface Mount; ComponentLink1Description: Manufacturer URL; ComponentLink1URL: http://www.onsemi.com/; ComponentLink2Description: Datasheet; ComponentLink2URL: http://www.onsemi.com/pub_link/Collateral/MBT35200MT1-D.PDF; ComponentLink3Description: Package Specification; ComponentLink3URL: http://www.onsemi.com/pub_link/Collateral/318G-02.PDF
footprint ONSC-TSOP-6-318G-02_V (SOP, 6-Leads, Body 3x1.5mm, Pitch 0.95mm)
pins: 1 C, 2 C, 3 B, 4 E, 5 C, 6 C
text: 1, 2, 5, 6

## MCH4014-TL-H
designator Q?
RF Transistor, 12 V, 30 mA, fT=10 GHz, NPN Single, 4-Pin MCPH, Pb-Free, Tape and Reel; Manufacturer: On Semiconductor; PartNumber: MCH4014-TL-H; fT Min (MHz): 8000; IC Continuous (A): 0.03; PackageReference: MCPH-4; PackageDescription: 4-Pin Small Outline Transistor, Body 2 x 1.6 mm, Pitch 0.65 mm; Supplier 1: Digi-Key; Supplier Part Number 1: MCH4014-TL-H-ND; Supplier 2: Mouser; Supplier Part Number 2: 863-MCH4014-TL-H; Packing: Tape and Reel; Polarity: NPN; RoHS: TRUE; Mounting Technology: Surface Mount; ComponentLink1Description: Manufacturer URL; ComponentLink1URL: http://www.onsemi.com/; ComponentLink2Description: Datasheet; ComponentLink2URL: http://www.onsemi.com/pub_link/Collateral/MCH4014-D.PDF; ComponentLink3Description: Package Specification; ComponentLink3URL: http://www.onsemi.com/pub_link/Collateral/ENA0389-D.PDF
footprint ONSC-MCPH-4_V (SOT23, 4-Leads, Body 2x1.6mm, Pitch 0.65mm)
pins: 1 C, 2 E, 3 B, 4 E
text: 2, 4

## MCH4015-TL-H
designator Q?
RF Transistor, 12 V, 100 mA, fT=10 GHz, NPN Single, 4-Pin MCPH, Pb-Free, Tape and Reel; Manufacturer: On Semiconductor; PartNumber: MCH4015-TL-H; fT Min (MHz): 8000; IC Continuous (A): 0.1; PackageReference: MCPH-4; PackageDescription: 4-Pin Small Outline Transistor, Body 2 x 1.6 mm, Pitch 0.65 mm; Supplier 1: Digi-Key; Supplier Part Number 1: MCH4015-TL-H-ND; Supplier 2: Mouser; Supplier Part Number 2: 863-MCH4015-TL-H; Packing: Tape and Reel; Polarity: NPN; RoHS: TRUE; Mounting Technology: Surface Mount; ComponentLink1Description: Manufacturer URL; ComponentLink1URL: http://www.onsemi.com/; ComponentLink2Description: Datasheet; ComponentLink2URL: http://www.onsemi.com/pub_link/Collateral/MCH4015-D.PDF; ComponentLink3Description: Package Specification; ComponentLink3URL: http://www.onsemi.com/pub_link/Collateral/ENA0389-D.PDF
footprint ONSC-MCPH-4_V (SOT23, 4-Leads, Body 2x1.6mm, Pitch 0.65mm)
pins: 1 C, 2 E, 3 B, 4 E
text: 2, 4

## MCH4016-TL-H
designator Q?
RF Transistor, 12 V, 30 mA, fT=10 GHz, NPN Single, 4-Pin MCPH, Pb-Free, Tape and Reel; Manufacturer: On Semiconductor; PartNumber: MCH4016-TL-H; fT Min (MHz): 8000; IC Continuous (A): 0.03; PackageReference: MCPH-4; PackageDescription: 4-Pin Small Outline Transistor, Body 2 x 1.6 mm, Pitch 0.65 mm; Supplier 1: Digi-Key; Supplier Part Number 1: MCH4016-TL-H-ND; Supplier 2: Mouser; Supplier Part Number 2: 863-MCH4016-TL-H; Packing: Tape and Reel; Polarity: NPN; RoHS: TRUE; Mounting Technology: Surface Mount; ComponentLink1Description: Manufacturer URL; ComponentLink1URL: http://www.onsemi.com/; ComponentLink2Description: Datasheet; ComponentLink2URL: http://www.onsemi.com/pub_link/Collateral/MCH4016-D.PDF; ComponentLink3Description: Package Specification; ComponentLink3URL: http://www.onsemi.com/pub_link/Collateral/ENA0389-D.PDF
footprint ONSC-MCPH-4_V (SOT23, 4-Leads, Body 2x1.6mm, Pitch 0.65mm)
pins: 1 E, 2 C, 3 E, 4 B
text: 1, 3

## MCH4017-TL-H
designator Q?
RF Transistor, 12 V, 100 mA, fT=10 GHz, NPN Single, 4-Pin MCPH, Pb-Free, Tape and Reel; Manufacturer: On Semiconductor; PartNumber: MCH4017-TL-H; fT Min (MHz): 8000; IC Continuous (A): 0.1; PackageReference: MCPH-4; PackageDescription: 4-Pin Small Outline Transistor, Body 2 x 1.6 mm, Pitch 0.65 mm; Supplier 1: Digi-Key; Supplier Part Number 1: MCH4017-TL-H-ND; Supplier 2: Mouser; Supplier Part Number 2: 863-MCH4017-TL-H; Packing: Tape and Reel; Polarity: NPN; RoHS: TRUE; Mounting Technology: Surface Mount; ComponentLink1Description: Manufacturer URL; ComponentLink1URL: http://www.onsemi.com/; ComponentLink2Description: Datasheet; ComponentLink2URL: http://www.onsemi.com/pub_link/Collateral/MCH4017-D.PDF; ComponentLink3Description: Package Specification; ComponentLink3URL: http://www.onsemi.com/pub_link/Collateral/ENA0389-D.PDF
footprint ONSC-MCPH-4_V (SOT23, 4-Leads, Body 2x1.6mm, Pitch 0.65mm)
pins: 1 E, 2 C, 3 E, 4 B
text: 1, 3